# EAGLE library part ASM330LHHTR (library ASM330LHHTR)
STMICROELECTRONICS - ASM330LHHTR - MEMS MOD, 3-AXIS GYROSCOPE/ACCELEROMETER Source: Datasheet <https://www.st.com/resource/en/datasheet/asm330lhh.pdf>
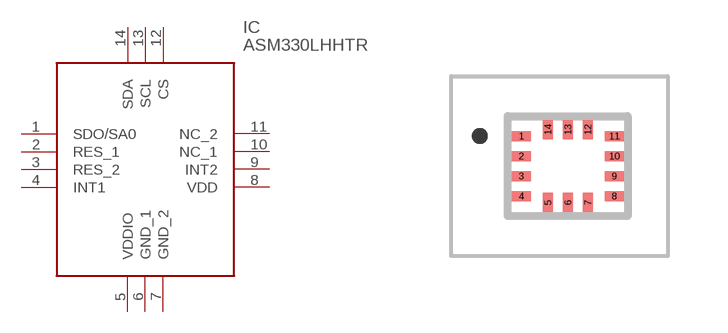
[diagram p0: symbol with the pads of LSM6DS3USTR; footprint LSM6DS3USTR]

Designator prefix IC

## ASM330LHHTR (Description: STMICROELECTRONICS - ASM330LHHTR - MEMS MOD, 3-AXIS GYROSCOPE/ACCELEROMETER; Height: 0.86mm; Manufacturer_Name: STMicroelectronics; Manufacturer_Part_Number: ASM330LHHTR; Mouser_Part_Number: 511-ASM330LHHTR; Mouser_Price-Stock: https://www.mouser.co.uk/ProductDetail/STMicroelectronics/ASM330LHHTR?qs=lc2O%252BfHJPVYgP8P9MzExKQ%3D%3D)  [LSM6DS3USTR]
1  SDO/SA0
2  RES_1
3  RES_2
4  INT1
5  VDDIO
6  GND_1
7  GND_2
8  VDD
9  INT2
10  NC_1
11  NC_2
12  CS
13  SCL
14  SDA

## Footprint LSM6DS3USTR (pad centres in mm)
LGA-14(2.5x3x0.86)
smd 0.475 x 0.25: 1 -1.163,0.75; 2 -1.163,0.25; 3 -1.163,-0.25; 4 -1.163,-0.75; 8 1.163,-0.75; 9 1.163,-0.25; 10 1.163,0.25; 11 1.163,0.75
smd 0.25 x 0.475: 5 -0.5,-0.912; 6 0,-0.912; 7 0.5,-0.912; 12 0.5,0.912; 13 0,0.912; 14 -0.5,0.912